# EAGLE library part PIN_HDR_1.27MM_10 (library open-bldc)
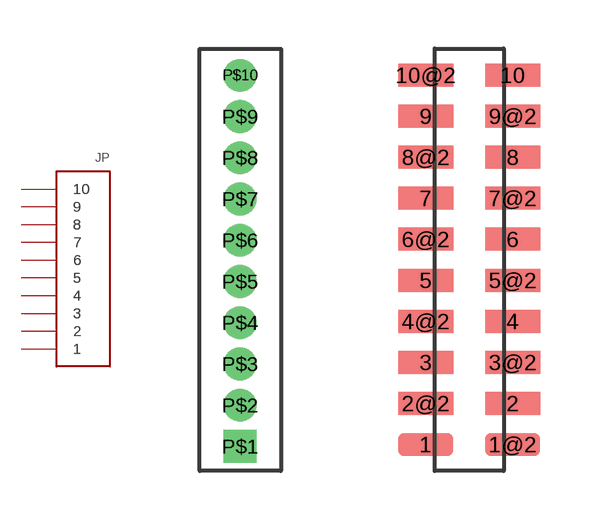
[diagram p6: symbol with the pads of PIN_HDR_1.27MM_10; footprints PIN_HDR_1.27MM_10, PIN_HDR_1.27MM_SMD_10]

Designator prefix JP

## PIN_HDR_1.27MM_10_TH  [PIN_HDR_1.27MM_10]
P$1  1
P$2  2
P$3  3
P$4  4
P$5  5
P$6  6
P$7  7
P$8  8
P$9  9
P$10  10

## PIN_HDR_1.27MM_10_SMT  [PIN_HDR_1.27MM_SMD_10]
1  1
2  2
3  3
4  4
5  5
6  6
7  7
8  8
9  9
10  10

## Footprint PIN_HDR_1.27MM_10 (pad centres in mm)
drill 0.5 square: P$1 0,0
drill 0.5 round: P$2 0,1.27; P$3 0,2.54; P$4 0,3.81; P$5 0,5.08; P$6 0,6.35; P$7 0,7.62; P$8 0,8.89; P$9 0,10.16; P$10 0,11.43

## Footprint PIN_HDR_1.27MM_SMD_10 (pad centres in mm)
smd 1.702 x 0.711: 1 -1.346,0; 1@2 1.346,0; 2 1.346,1.27; 2@2 -1.346,1.27; 3 -1.346,2.54; 3@2 1.346,2.54; 4 1.346,3.81; 4@2 -1.346,3.81; 5 -1.346,5.08; 5@2 1.346,5.08; 6 1.346,6.35; 6@2 -1.346,6.35; 7 -1.346,7.62; 7@2 1.346,7.62; 8 1.346,8.89; 8@2 -1.346,8.89; 9 -1.346,10.16; 9@2 1.346,10.16; 10 1.346,11.43; 10@2 -1.346,11.43